# EAGLE library part 430STAMP (library sc_usercreated)
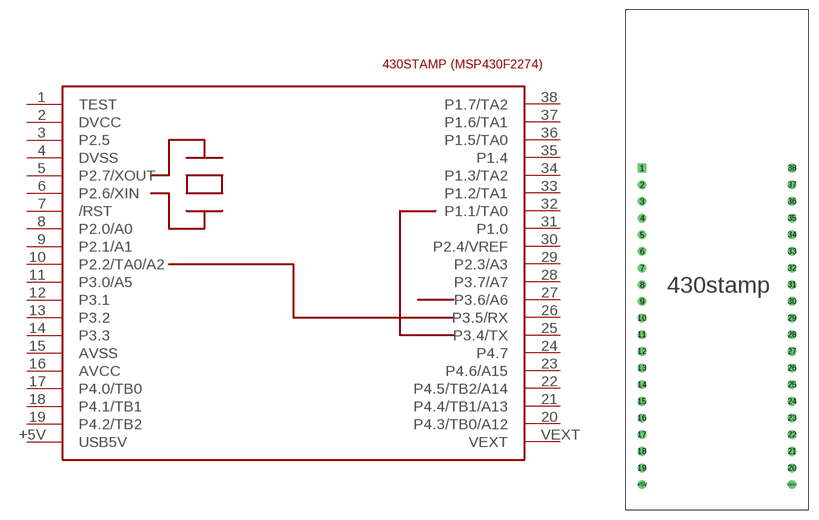
[diagram p2: symbol with the pads of 430STAMP; footprint 430STAMP]

Designator prefix -

## 430STAMP  [430STAMP]
1  TEST
2  DVCC
3  P2.5
4  DVSS
5  P2.7/XOUT
6  P2.6/XIN
7  /RST
8  P2.0/A0
9  P2.1/A1
10  P2.2/TA0/A2
11  P3.0/A5
12  P3.1
13  P3.2
14  P3.3
15  AVSS
16  AVCC
17  P4.0/TB0
18  P4.1/TB1
19  P4.2/TB2
20  P4.3/TB0/A12
21  P4.4/TB1/A13
22  P4.5/TB2/A14
23  P4.6/A15
24  P4.7
25  P3.4/TX
26  P3.5/RX
27  P3.6/A6
28  P3.7/A7
29  P2.3/A3
30  P2.4/VREF
31  P1.0
32  P1.1/TA0
33  P1.2/TA1
34  P1.3/TA2
35  P1.4
36  P1.5/TA0
37  P1.6/TA1
38  P1.7/TA2
+5V  USB5V
VEXT  VEXT

## Footprint 430STAMP (pad centres in mm)
drill 0.8 square: 1 -11.43,24.13
drill 0.8 round: 2 -11.43,21.59; 3 -11.43,19.05; 4 -11.43,16.51; 5 -11.43,13.97; 6 -11.43,11.43; 7 -11.43,8.89; 8 -11.43,6.35; 9 -11.43,3.81; 10 -11.43,1.27; 11 -11.43,-1.27; 12 -11.43,-3.81; 13 -11.43,-6.35; 14 -11.43,-8.89; 15 -11.43,-11.43; 16 -11.43,-13.97; 17 -11.43,-16.51; 18 -11.43,-19.05; 19 -11.43,-21.59; 20 11.43,-21.59; 21 11.43,-19.05; 22 11.43,-16.51; 23 11.43,-13.97; 24 11.43,-11.43; 25 11.43,-8.89; 26 11.43,-6.35; 27 11.43,-3.81; 28 11.43,-1.27; 29 11.43,1.27; 30 11.43,3.81; 31 11.43,6.35; 32 11.43,8.89; 33 11.43,11.43; 34 11.43,13.97; 35 11.43,16.51; 36 11.43,19.05; 37 11.43,21.59; 38 11.43,24.13; +5V -11.43,-24.13; VEXT 11.43,-24.13